# EAGLE library part BC-MODULE-CORE (library bigclown)
BigClown Core Module Follow this link <https://shop.bigclown.com/products/core-module> for more information.
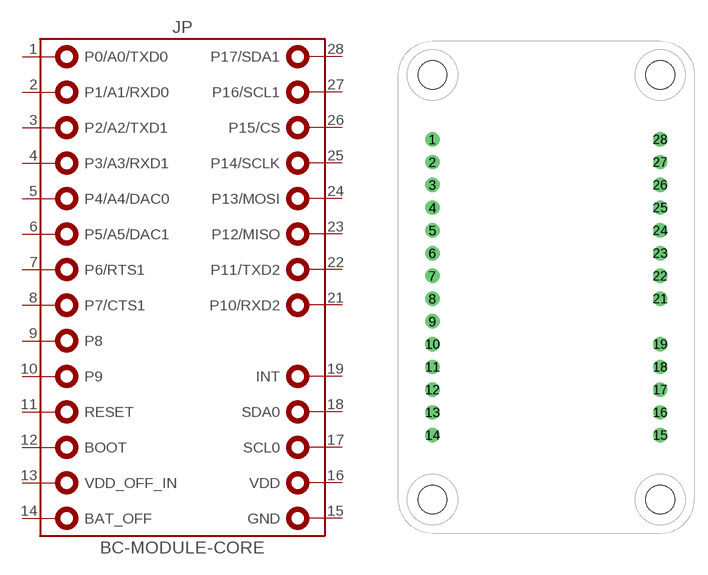
[diagram p0: symbol with the pads of BC-MODULE-CORE; footprint BC-MODULE-CORE]

Designator prefix JP

## BC-MODULE-CORE  [BC-MODULE-CORE]
1  P0/A0/TXD0  pas
2  P1/A1/RXD0  pas
3  P2/A2/TXD1  pas
4  P3/A3/RXD1  pas
5  P4/A4/DAC0  pas
6  P5/A5/DAC1  pas
7  P6/RTS1  pas
8  P7/CTS1  pas
9  P8  pas
10  P9  pas
11  RESET  pas
12  BOOT  pas
13  VDD_OFF_IN  pas
14  BAT_OFF  pas
15  GND  pas
16  VDD  pas
17  SCL0  pas
18  SDA0  pas
19  INT  pas
21  P10/RXD2  pas
22  P11/TXD2  pas
23  P12/MISO  pas
24  P13/MOSI  pas
25  P14/SCLK  pas
26  P15/CS  pas
27  P16/SCL1  pas
28  P17/SDA1  pas

## Footprint BC-MODULE-CORE (pad centres in mm)
drill 1 pad 1.6: 1 -12.7,16.51; 2 -12.7,13.97; 3 -12.7,11.43; 4 -12.7,8.89; 5 -12.7,6.35; 6 -12.7,3.81; 7 -12.7,1.27; 8 -12.7,-1.27; 9 -12.7,-3.81; 10 -12.7,-6.35; 11 -12.7,-8.89; 12 -12.7,-11.43; 13 -12.7,-13.97; 14 -12.7,-16.51; 15 12.7,-16.51; 16 12.7,-13.97; 17 12.7,-11.43; 18 12.7,-8.89; 19 12.7,-6.35; 21 12.7,-1.27; 22 12.7,1.27; 23 12.7,3.81; 24 12.7,6.35; 25 12.7,8.89; 26 12.7,11.43; 27 12.7,13.97; 28 12.7,16.51
hole 3.2 at -12.7,23.7
hole 3.2 at 12.7,23.7
hole 3.2 at -12.7,-23.7
hole 3.2 at 12.7,-23.7